# Altium footprint library WePcbLib.PcbLib: 177 footprints (part 4 of 12)
Each footprint in its own frame and in the unit in brackets; x right, y up, seen from the top. Pads: shape width x height; smd on the part's side, far side on the other; paste and mask are expansions set on the pad; w line width, h text height; cw(c..) or ccw(c..) is an arc to the next point about the centre after c.
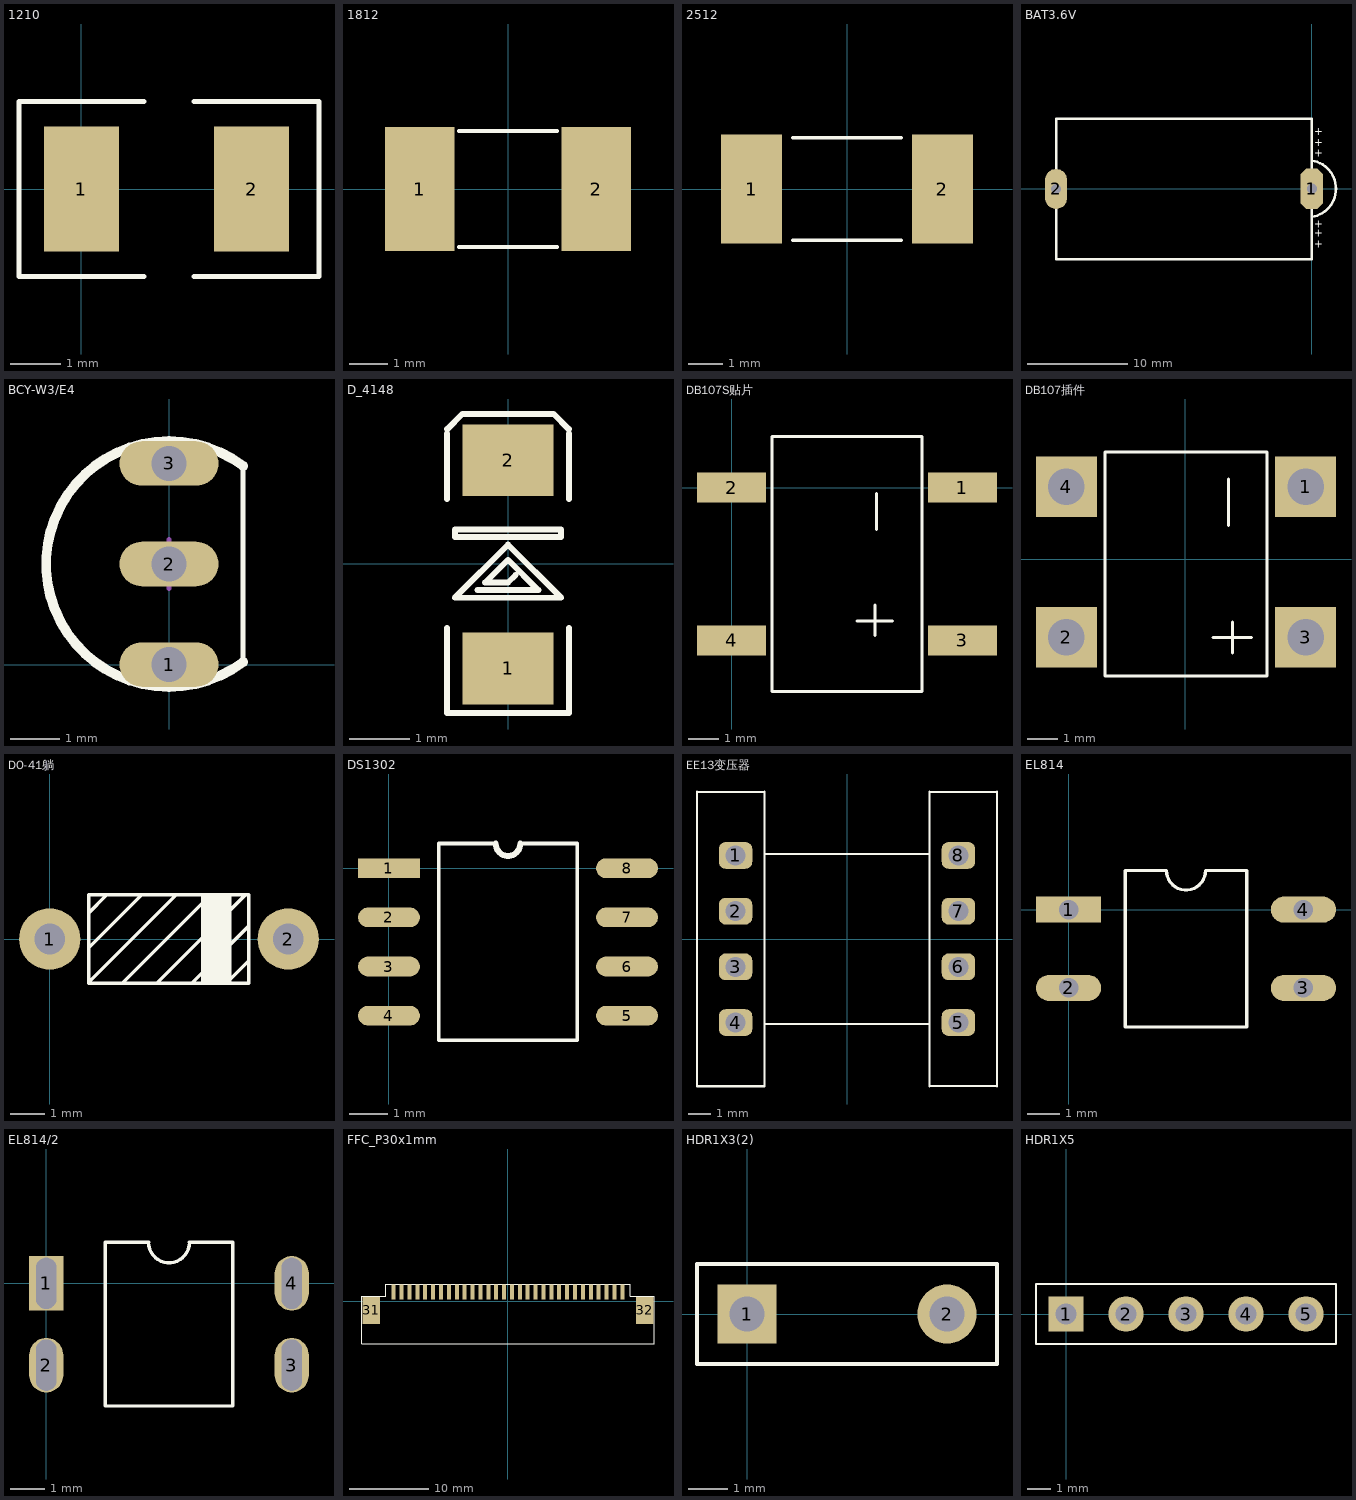
[diagram p3: the footprints below, top view; thin cyan lines are the x and y axes]

## 1210 [mm]
pads (2):
  rect 1.5x2.5 smd: 1(0,0) 2(3.4,0)
Top Overlay:
  lines w0.102: 1.25,-1.75 -1.25,-1.75 -1.25,1.75 1.25,1.75 ; 2.25,-1.75 4.75,-1.75 4.75,1.75 2.25,1.75

## 1812 [mm]
pads (2):
  rect 1.8x3.2 smd: 1(-2.286,0) 2(2.286,0)
Top Overlay:
  lines w0.1: -1.27,-1.5 1.27,-1.5 ; -1.27,1.5 1.27,1.5

## 2512 [mm]
height 4.6
pads (2):
  rect 1.8x3.2 smd: 1(-2.8,0) 2(2.8,0)
Top Overlay:
  lines w0.1: -1.6,-1.5 1.6,-1.5 ; -1.6,1.5 1.6,1.5

## BAT3.6V [mm]
pads (2):
  oct 2.2x4 hole 1: 1(0,0)
  oval 2.2x4 hole 1: 2(-25.483,-0.025)
Top Overlay:
  lines w0.203: 0.949,0.051 1,0
  lines w0.254: -0.009,-2.813 ccw(c-0.432,0) -0.005,2.813 ; -25.483,-7.023 0,-7.03 0,0 0,6.97 -25.483,6.977 -25.483,-0.025 -25.483,-7.023
  text "+" at 0.229,-3.886 h0.76
  text "+" at 0.254,-4.801 h0.76
  text "+" at 0.254,-5.867 h0.76
  text "+" at 0.254,5.334 h0.76
  text "+" at 0.229,4.242 h0.76
  text "+" at 0.229,3.2 h0.76
Mechanical 1:
  lines w1: -25.483,-0.787 -25.476,0.635 ; 0,-0.73 0,0.692

## BCY-W3/E4 [mm] "TO, Flat Index; 3 In-Line, Axial Leads; Body Dia. 4.5mm; Leads 0.51 x 0.48 mm (max)"
height 6.86
pads (3):
  oval 2x0.9 hole 0.7: 1(0,0) 2(0,2.032) 3(0,4.064)
Top Overlay:
  lines w0.1: 1.5,0.052 1.5,4.012
  lines w0.2: 1.5,0.052 cw(c0,2.032) 1.5,4.012
Mechanical 15:
  lines w0.1: -0.5,2.032 0.5,2.032 ; 0,1.532 0,2.532

## D_4148 [mil]
height 181.1
pads (2):
  rect 60x47.24 smd: 1(0,-69) 2(0,68)
Top Overlay:
  lines w3.94: -40,-42.5 -40,-98.42 40,-98.42 40,-42.5 ; -40,42.5 -40,85.69 ; -40,88.42 -30,98.42 30,98.42 40,88.42 ; -20,-17.5 20,-17.5 0,2.5 -15,-12.5 0,-12.5 5,-7.5 ; 40,42.5 40,85.69 ; -35,-22.5 0,12.5 35,-22.5 -35,-22.5 ; -35,17.5 -35,22.5 35,22.5 35,17.5 -35,17.5

## DB107S贴片 [mm]
pads (4):
  rect 2.3x1 smd: 1(7.7,0) 2(0,0) 3(7.7,-5.1) 4(0,-5.1)
Top Overlay:
  lines w0.1: 4.191,-4.445 5.359,-4.445 ; 4.775,-4.928 4.775,-3.912 ; 4.826,-1.397 4.826,-0.203 ; 1.346,-6.8 1.346,1.7 6.35,1.7 6.35,-6.8 1.346,-6.8

## DB107插件 [mm]
pads (4):
  rect 2x2 hole 1.2: 1(3.962,2.388) 2(-3.912,-2.565) 3(3.962,-2.565) 4(-3.912,2.388)
Top Overlay:
  lines w0.1: 0.914,-2.565 2.184,-2.565 ; 1.422,1.118 1.422,2.642 ; 1.549,-3.073 1.549,-2.057 ; -2.642,-3.835 2.692,-3.835 2.692,3.531 -2.642,3.531 -2.642,-3.835

## DO-41躺 [mm]
pads (2):
  round 1.8 hole 0.9: 1(0,0) 2(7,0)
Top Overlay:
  rectangle: 4.445,-1.27 5.334,1.27
  lines w0.1: 1.143,-1.3 5.842,-1.3 5.842,1.3 1.143,1.3 ; 1.143,-0.254 2.667,1.27 ; 1.143,0.762 1.651,1.27 ; 1.143,1.27 1.143,-1.27 3.683,1.27 ; 2.159,-1.27 4.699,1.27 ; 3.175,-1.27 5.715,1.27 ; 4.191,-1.27 5.842,0.381 ; 5.207,-1.27 5.842,-0.635

## DS1302 [mm]
height 4.6
pads (8):
  rect 1.6x0.51 smd: 1(0,0)
  oval 1.6x0.51 smd: 2(0,-1.27) 3(0,-2.54) 4(0,-3.81) 5(6.15,-3.81) 6(6.15,-2.54) 7(6.15,-1.27) 8(6.15,0)
Top Overlay:
  lines w0.1: 2.758,0.635 1.287,0.635 1.287,-4.445 4.863,-4.445 4.863,0.635 3.393,0.635
  lines w0.152: 2.758,0.635 ccw(c3.075,0.635) 3.393,0.635

## EE13变压器 [mm]
pads (8):
  rrect50% 1.5x1.2 hole 0.9: 1(-5,3.75) 2(-5,1.25) 3(-5,-1.25) 4(-5,-3.75) 5(5,-3.75) 6(5,-1.25) 7(5,1.25) 8(5,3.75)
Top Overlay:
  lines w0.102: -6.731,6.604 -6.731,-6.604 -3.7,-6.604 -3.7,6.604 ; -6.7,6.6 -3.7,6.6 ; -3.683,-3.81 3.683,-3.81 ; -3.683,3.81 3.683,3.81 ; 3.7,-6.604 3.7,6.604 ; 3.7,-6.6 6.7,-6.6 ; 3.7,6.6 6.7,6.6 ; 6.731,-6.604 6.731,6.604

## EL814 [mm]
pads (4):
  rect 2x0.8 hole 0.6: 1(0,0)
  oval 2x0.8 hole 0.6: 2(0,-2.4) 3(7.2,-2.4) 4(7.2,0)
Top Overlay:
  lines w0.1: 1.735,-3.6 5.465,-3.6 5.465,1.2 4.2,1.2 cw(c3.6,1.2) 3,1.2 1.735,1.2 1.735,-3.6

## EL814/2 [mm]
pads (4):
  rect 1x1.6 hole 0.6 slot 1.5 at 90 deg: 1(0,0)
  oval 1x1.6 hole 0.6 slot 1.5 at 90 deg: 2(0,-2.4) 3(7.2,-2.4) 4(7.2,0)
Top Overlay:
  lines w0.1: 1.735,-3.6 1.735,1.2 3,1.2 ccw(c3.6,1.2) 4.2,1.2 5.465,1.2 5.465,-3.6 1.735,-3.6

## FFC_P30x1mm [mil]
pads (32):
  rect 20x75 smd: 1(-570,45.46) 2(-530.69,45.46) 3(-491.38,45.46) 4(-452.07,45.46) 5(-412.76,45.46) 6(-373.45,45.46) 7(-334.14,45.46) 8(-294.83,45.46) 9(-255.52,45.46) 10(-216.21,45.46) 11(-176.9,45.46) 12(-137.59,45.46) 13(-98.28,45.46) 14(-58.97,45.46) 15(-19.66,45.46) 16(19.65,45.46) 17(58.96,45.46) 18(98.28,45.46) 19(137.59,45.46) 20(176.9,45.46) 21(216.21,45.46) 22(255.52,45.46) 23(294.83,45.46) 24(334.14,45.46) 25(373.45,45.46) 26(412.76,45.46) 27(452.07,45.46) 28(491.38,45.46) 29(530.69,45.46) 30(570,45.46)
  rect 86.61x133.86 smd: 31(-681.1,-45.46) 32(681.1,-45.46)
Top Overlay:
  lines w3.94: -728.35,-210.81 728.35,-210.81 728.35,25.41 610.24,25.41 610.24,84.46 -610.24,84.46 -610.24,25.41 -728.35,25.41 -728.35,-210.81

## HDR1X3(2) [mm] "Connector; Header; 5 Position"
pads (2):
  rect 1.5x1.5 hole 0.9: 1(0,0)
  round 1.5 hole 0.9: 2(5.08,0)
Top Overlay:
  lines w0.1: 6.325,-1.27 -1.27,-1.27 -1.27,1.27 6.325,1.27 ; 6.35,-1.27 6.35,1.27

## HDR1X5 [mm] "Connector; Header; 5 Position"
pads (5):
  rect 1.5x1.5 hole 0.9: 1(0,0)
  round 1.5 hole 0.9: 2(2.54,0) 3(5.08,0) 4(7.62,0) 5(10.16,0)
Top Overlay:
  lines w0.1: -1.27,-1.27 11.43,-1.27 11.43,1.27 -1.27,1.27 -1.27,-1.27